# Altium integrated library Infineon_Power_Supply_Voltage_Regulator.IntLib: 346 symbols (part 6 of 16)
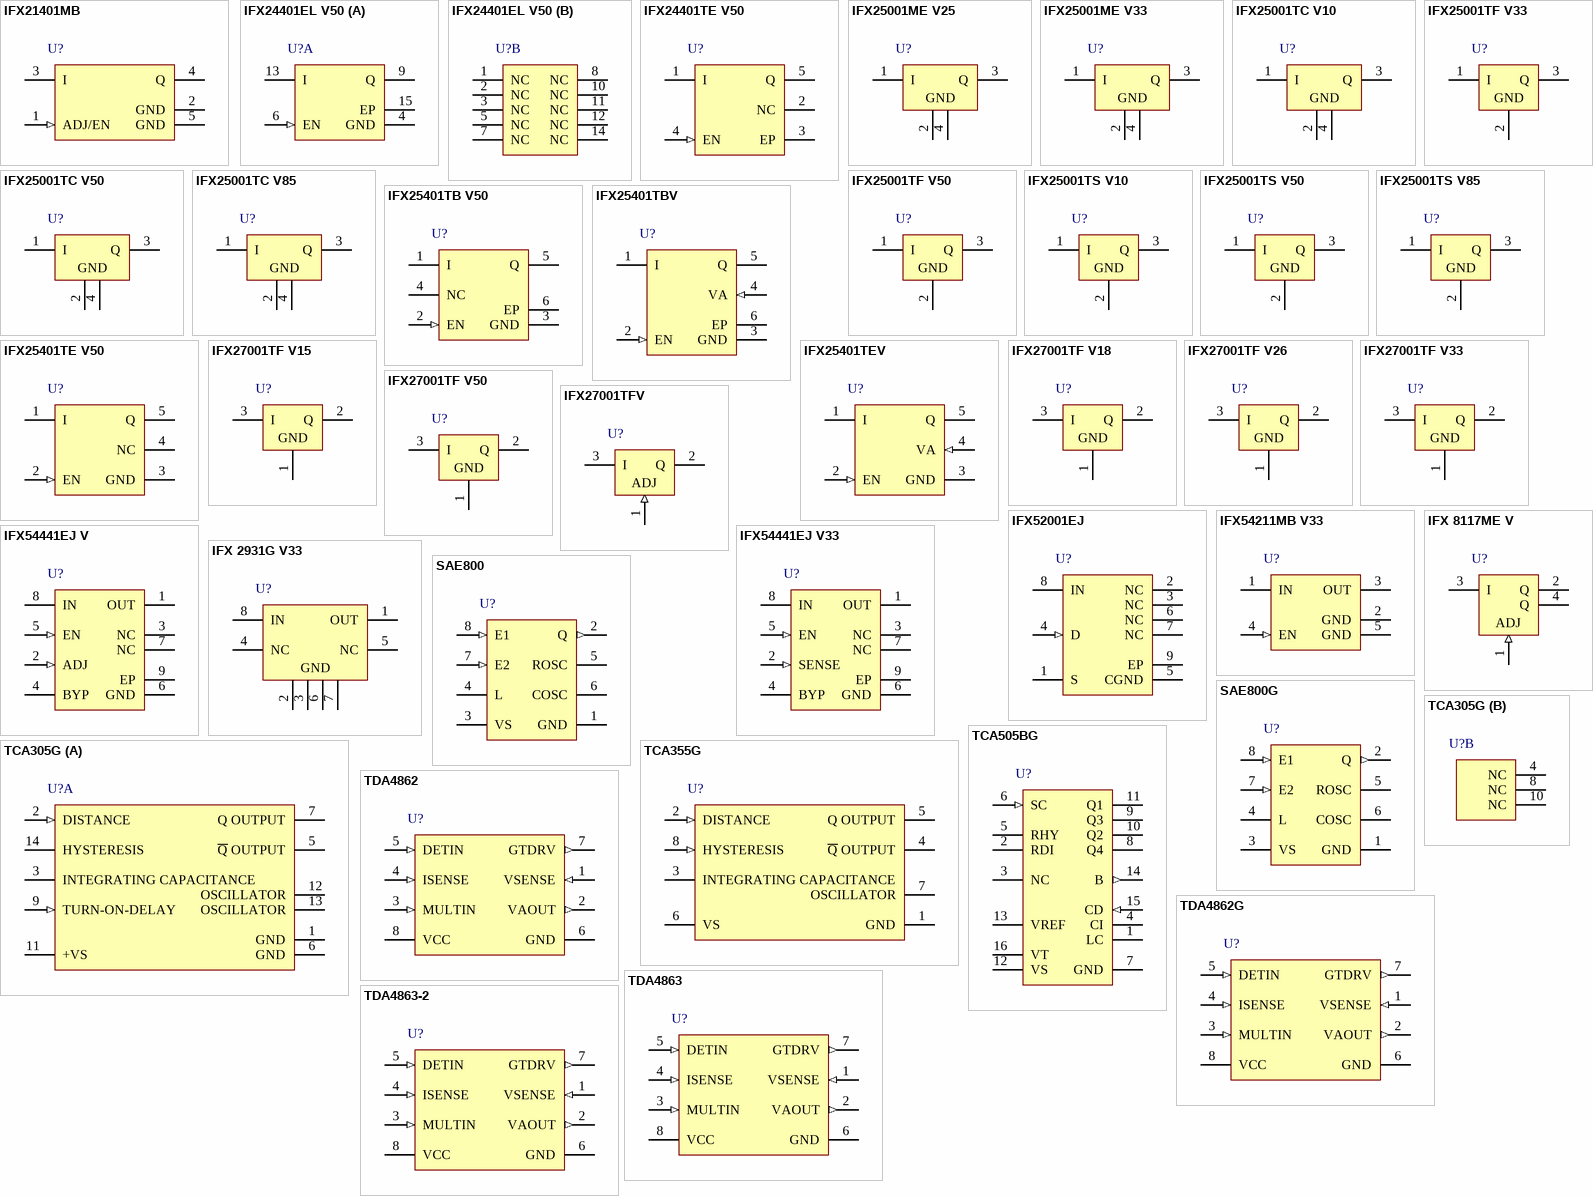
[diagram p14: symbols IFX21401MB to TDA4863-2]

## IFX27001TF V26
designator U?
Linear Voltage Regulator, 4 to 40 V Operating, 1000 mA, -40 to 125 degC, PG-TO252-3-11, Reel, Green; Manufacturer: Infineon; PartNumber: IFX27001TF V26; Accuracy: 3.0 %; Automotive Qualified: FALSE; Dropout Voltage: 1300 mV; Green: TRUE; Max Number Reflow: 3; Max Peak Reflow Temp: 260 degC; Max. Output Current: 1000 mA; Output Voltage: 2.6 V; Regulator Type: Linear->single output; Typical Quiescent Current: 800 uA; DatasheetVersion: Rev. 1.01; PackageVersion: Dec-06; PackageReference: PG-TO252-3-11; PackageDescription: 3-Pin Plastic (Green) Transistor Single Outline Package, 6.5 x 6.12 mm Body, 2.28 mm Pitch; Supplier 1: Mouser; Supplier Part Number 1: 726-IFX27001TFV26; Supplier 2: Digi-Key; Supplier Part Number 2: IFX27001TF V26INTR-ND; Supplier 3: Digi-Key; Supplier Part Number 3: IFX27001TF V26INCT-ND; Supplier 4: Digi-Key; Supplier Part Number 4: IFX27001TF V26INDKR-ND; Halogen-free: TRUE; MSL: 1; Packing: Reel; Reset: FALSE; Status Output: FALSE; Mounting Technology: Surface Mount; ComponentLink1Description: Manufacturer URL; ComponentLink1URL: http://www.infineon.com/; ComponentLink2Description: Datasheet; ComponentLink2URL: http://www.infineon.com/dgdl/IFX27001_DS_101.pdf?folderId=db3a30431ff988150120802bce1d257a&fileId=db3a304320d39d590120f62f022a6a03; ComponentLink3Description: Package Specification; ComponentLink3URL: http://www.infineon.com/dgdl/BTS142_DS_13.pdf?folderId=db3a3043163797a6011667aa084c0e01&fileId=db3a3043163797a6011667ac98be0e02&location=en.Products.Automotive_ICs.Smart_High-_and_Low-Side_Switches.HITFET___TEMPFET__-_Smart_Low-Side_Switches.DATASHEET.BTS142_DS_13.pdf
footprint INF-PG-TO252-3-11_N (DPAK, 3-Leads, Body 6.5x6.12mm, Pitch 2.28mm, IPC Medium Density)
footprint INF-PG-TO252-3-11_L (DPAK, 3-Leads, Body 6.5x6.12mm, Pitch 2.28mm, IPC High Density)
footprint INF-PG-TO252-3-11_M (DPAK, 3-Leads, Body 6.5x6.12mm, Pitch 2.28mm, IPC Low Density)
pins: 1 GND (power), 2 Q (power) "Output; Connect a capacitor CQ >= 10 uF with ESR =< 10 ohm between pin Q and GND Connect to heatsink area. Connect to heatsink area.", 3 I (power) "Input"

## IFX27001TF V33
designator U?
Linear Voltage Regulator, 4 to 40 V Operating, 1000 mA, -40 to 125 degC, PG-TO252-3-11, Reel, Green; Manufacturer: Infineon; PartNumber: IFX27001TF V33; Accuracy: 3.0 %; Automotive Qualified: FALSE; Dropout Voltage: 1300 mV; Green: TRUE; Max Number Reflow: 3; Max Peak Reflow Temp: 260 degC; Max. Output Current: 1000 mA; Output Voltage: 3.3 V; Regulator Type: Linear->single output; Typical Quiescent Current: 800 uA; DatasheetVersion: Rev. 1.01; PackageVersion: Dec-06; PackageReference: PG-TO252-3-11; PackageDescription: 3-Pin Plastic (Green) Transistor Single Outline Package, 6.5 x 6.12 mm Body, 2.28 mm Pitch; Supplier 1: Mouser; Supplier Part Number 1: 726-IFX27001TFV33; Supplier 2: Digi-Key; Supplier Part Number 2: IFX27001TF V33INTR-ND; Supplier 3: Digi-Key; Supplier Part Number 3: IFX27001TF V33INCT-ND; Supplier 4: Digi-Key; Supplier Part Number 4: IFX27001TF V33INDKR-ND; Halogen-free: TRUE; MSL: 1; Packing: Reel; Reset: FALSE; Status Output: FALSE; Mounting Technology: Surface Mount; ComponentLink1Description: Manufacturer URL; ComponentLink1URL: http://www.infineon.com/; ComponentLink2Description: Datasheet; ComponentLink2URL: http://www.infineon.com/dgdl/IFX27001_DS_101.pdf?folderId=db3a30431ff988150120802bce1d257a&fileId=db3a304320d39d590120f62f022a6a03; ComponentLink3Description: Package Specification; ComponentLink3URL: http://www.infineon.com/dgdl/BTS142_DS_13.pdf?folderId=db3a3043163797a6011667aa084c0e01&fileId=db3a3043163797a6011667ac98be0e02&location=en.Products.Automotive_ICs.Smart_High-_and_Low-Side_Switches.HITFET___TEMPFET__-_Smart_Low-Side_Switches.DATASHEET.BTS142_DS_13.pdf
footprint INF-PG-TO252-3-11_N (DPAK, 3-Leads, Body 6.5x6.12mm, Pitch 2.28mm, IPC Medium Density)
footprint INF-PG-TO252-3-11_L (DPAK, 3-Leads, Body 6.5x6.12mm, Pitch 2.28mm, IPC High Density)
footprint INF-PG-TO252-3-11_M (DPAK, 3-Leads, Body 6.5x6.12mm, Pitch 2.28mm, IPC Low Density)
pins: 1 GND (power), 2 Q (power) "Output", 3 I (power) "Input"

## IFX27001TF V50
designator U?
Linear Voltage Regulator, 6.4 to 40 V Operating, 1000 mA, -40 to 125 degC, PG-TO252-3-11, Reel, Green; Manufacturer: Infineon; PartNumber: IFX27001TF V50; Accuracy: 3.0 %; Automotive Qualified: FALSE; Dropout Voltage: 1300 mV; Green: TRUE; Max Number Reflow: 3; Max Peak Reflow Temp: 260 degC; Max. Output Current: 1000 mA; Output Voltage: 5 V; Regulator Type: Linear->single output; Typical Quiescent Current: 800 uA; DatasheetVersion: Rev. 1.01; PackageVersion: Dec-06; PackageReference: PG-TO252-3-11; PackageDescription: 3-Pin Plastic (Green) Transistor Single Outline Package, 6.5 x 6.12 mm Body, 2.28 mm Pitch; Supplier 1: Mouser; Supplier Part Number 1: 726-IFX27001TFV50; Supplier 2: Newark; Supplier Part Number 2: 47W3457; Supplier 3: Farnell; Supplier Part Number 3: 2215562; Supplier 4: Digi-Key; Supplier Part Number 4: IFX27001TF V50INTR-ND; Supplier 5: Digi-Key; Supplier Part Number 5: IFX27001TF V50INCT-ND; Supplier 6: Digi-Key; Supplier Part Number 6: IFX27001TF V50INDKR-ND; Halogen-free: TRUE; MSL: 1; Packing: Reel; Reset: FALSE; Status Output: FALSE; Mounting Technology: Surface Mount; ComponentLink1Description: Manufacturer URL; ComponentLink1URL: http://www.infineon.com/; ComponentLink2Description: Datasheet; ComponentLink2URL: http://www.infineon.com/dgdl/IFX27001_DS_101.pdf?folderId=db3a30431ff988150120802bce1d257a&fileId=db3a304320d39d590120f62f022a6a03; ComponentLink3Description: Package Specification; ComponentLink3URL: http://www.infineon.com/dgdl/BTS142_DS_13.pdf?folderId=db3a3043163797a6011667aa084c0e01&fileId=db3a3043163797a6011667ac98be0e02&location=en.Products.Automotive_ICs.Smart_High-_and_Low-Side_Switches.HITFET___TEMPFET__-_Smart_Low-Side_Switches.DATASHEET.BTS142_DS_13.pdf
footprint INF-PG-TO252-3-11_N (DPAK, 3-Leads, Body 6.5x6.12mm, Pitch 2.28mm, IPC Medium Density)
footprint INF-PG-TO252-3-11_L (DPAK, 3-Leads, Body 6.5x6.12mm, Pitch 2.28mm, IPC High Density)
footprint INF-PG-TO252-3-11_M (DPAK, 3-Leads, Body 6.5x6.12mm, Pitch 2.28mm, IPC Low Density)
pins: 1 GND (power), 2 Q (power) "Output; Connect a capacitor CQ >= 10 uF with ESR =< 10 ohm between pin Q and GND Connect to heatsink area.", 3 I (power) "Input"

## IFX27001TFV
designator U?
Linear Voltage Regulator, 3.2 to 40 V Operating, 1000 mA, -40 to 125 degC, PG-TO252-3-11, Reel, Green; Manufacturer: Infineon; PartNumber: IFX27001TFV; Accuracy: 3.0 %; Automotive Qualified: FALSE; Dropout Voltage: 1300 mV; Green: TRUE; Max Number Reflow: 3; Max Peak Reflow Temp: 260 degC; Max. Output Current: 1000 mA; Output Voltage: adj.; Regulator Type: Linear->single output; Typical Quiescent Current: 1000 uA; DatasheetVersion: Rev. 1.01; PackageVersion: Dec-06; PackageReference: PG-TO252-3-11; PackageDescription: 3-Pin Plastic (Green) Transistor Single Outline Package, 6.5 x 6.12 mm Body, 2.28 mm Pitch; Supplier 1: Mouser; Supplier Part Number 1: 726-IFX27001TFV; Supplier 2: Digi-Key; Supplier Part Number 2: IFX27001TFVINTR-ND; Supplier 3: Digi-Key; Supplier Part Number 3: IFX27001TFVINCT-ND; Supplier 4: Digi-Key; Supplier Part Number 4: IFX27001TFVINDKR-ND; Halogen-free: TRUE; MSL: 1; Packing: Reel; Reset: FALSE; Status Output: FALSE; Mounting Technology: Surface Mount; ComponentLink1Description: Manufacturer URL; ComponentLink1URL: http://www.infineon.com/; ComponentLink2Description: Datasheet; ComponentLink2URL: http://www.infineon.com/dgdl/IFX27001_DS_101.pdf?folderId=db3a30431ff988150120802bce1d257a&fileId=db3a304320d39d590120f62f022a6a03; ComponentLink3Description: Package Specification; ComponentLink3URL: http://www.infineon.com/dgdl/BTS142_DS_13.pdf?folderId=db3a3043163797a6011667aa084c0e01&fileId=db3a3043163797a6011667ac98be0e02&location=en.Products.Automotive_ICs.Smart_High-_and_Low-Side_Switches.HITFET___TEMPFET__-_Smart_Low-Side_Switches.DATASHEET.BTS142_DS_13.pdf
footprint INF-PG-TO252-3-11_N (DPAK, 3-Leads, Body 6.5x6.12mm, Pitch 2.28mm, IPC Medium Density)
footprint INF-PG-TO252-3-11_L (DPAK, 3-Leads, Body 6.5x6.12mm, Pitch 2.28mm, IPC High Density)
footprint INF-PG-TO252-3-11_M (DPAK, 3-Leads, Body 6.5x6.12mm, Pitch 2.28mm, IPC Low Density)
pins: 1 ADJ (in), 2 Q (power) "Output; Connect a capacitor CQ >= 10 uF with ESR =< 10 ohm between pin Q and GND Connect to heatsink area. Connect to heatsink area.", 3 I (power) "Input"

## IFX52001EJ
designator U?
Constant Current Relay Driver, 3 to 30 V Operating, 40 mA, -40 to 125 degC, PG-DSO-8-27, Reel, Green; Manufacturer: Infineon; PartNumber: IFX52001EJ; Accuracy: 3.0 %; Automotive Qualified: FALSE; Green: TRUE; Max. Output Current: 40 mA; Regulator Type: Linear->coil/relay driver; DatasheetVersion: Rev. 1.0; PackageVersion: V01, 06/2012; PackageReference: PG-DSO-8-27; PackageDescription: 8-Pin Plastic (Green) Dual Small Outline Package, 4.9 x 3.9 mm Body, 1.27 mm Pitch; Supplier 1: Mouser; Supplier Part Number 1: 726-IFX52001EJ; Supplier 2: Digi-Key; Supplier Part Number 2: IFX52001EJINTR-ND; Supplier 3: Digi-Key; Supplier Part Number 3: IFX52001EJINCT-ND; Supplier 4: Digi-Key; Supplier Part Number 4: IFX52001EJINDKR-ND; Halogen-free: TRUE; Packing: Reel; Reset: FALSE; Status Output: FALSE; Mounting Technology: Surface Mount; Code_JEDEC: MS-012; ComponentLink1Description: Manufacturer URL; ComponentLink1URL: http://www.infineon.com/; ComponentLink2Description: Datasheet; ComponentLink2URL: http://www.infineon.com/dgdl/IFX52001-DS-10.pdf?folderId=db3a304318f3fe290118f5a433570040&fileId=db3a30432f0d175c012f25a914ef1d14; ComponentLink3Description: Package Specification; ComponentLink3URL: http://www.infineon.com/dgdl/ILD4071_DS_V10_November2011.pdf?folderId=db3a30431f848401011fcbf2ab4c04c4&fileId=db3a30433784a04001380498fdf04c32
footprint INF-PG-DSO-8-27_N (SOP, 8-Leads, Body 4.9x3.9mm, Pitch 1.27mm, Thermal Pad 3.2x2.85mm, IPC Medium Density)
footprint INF-PG-DSO-8-27_L (SOP, 8-Leads, Body 4.9x3.9mm, Pitch 1.27mm, Thermal Pad 3.2x2.85mm, IPC High Density)
footprint INF-PG-DSO-8-27_M (SOP, 8-Leads, Body 4.9x3.9mm, Pitch 1.27mm, Thermal Pad 3.2x2.85mm, IPC Low Density)
pins: 1 S (power) "IC Supply", 2 NC "Not Connected", 3 NC "Not Connected", 4 D (in) "Delay", 5 CGND (power) "Relay Coil Current Output and IC Ground", 6 NC "Not Connected", 7 NC "Not Connected", 8 IN (power) "Relay Coil Current Input", 9 EP (power) "Exposed Pad:interconnect with CGND and heat sink area on PCB."

## IFX54211MB V33
designator U?
High PSRR Low Dropout Linear Voltage Regulator, 3.3 Vout, -40 to 125 degC, PG-SCT595, Reel, Green; Manufacturer: Infineon; PartNumber: IFX54211MB V33; Automotive Qualified: FALSE; Dropout Voltage: 290mV; Green: TRUE; Max. Output Current: 150mA; Operating Range: 2.7 to 18 V; Output Voltage: 3.3 V; Typical Quiescent Current: 50uA; DatasheetVersion: Rev. 1.0; PackageVersion: Apr-08; PackageReference: PG-SCT595; PackageDescription: 5-Pin Semiconductor Transistor Package, 2.9 x 1.6 mm Body, 0.95 mm Pitch; Packing: Reel; Regulator Type: Linear; Reset: FALSE; Mounting Technology: Surface Mount; ComponentLink1Description: Manufacturer URL; ComponentLink1URL: http://www.infineon.com/; ComponentLink2Description: Datasheet; ComponentLink2URL: http://www.infineon.com/dgdl/IFX54211MBV33-Preliminary-Data-Sheet-01-Infineon.pdf?folderId=db3a30431ff988150120802bce1d257a&fileId=db3a3043446cd82901446da993d20163; ComponentLink3Description: Package Specification; ComponentLink3URL: http://www.infineon.com/dgdl/SCT595-Package_Overview.pdf?folderId=db3a30431936bc4b01195289a4e23b8a&fileId=db3a30431936bc4b0119529a880d3bb2
footprint INF-PG-SCT595_V (SOT23, 5-Leads, Body 2.9x1.6mm, Pitch 0.95mm)
pins: 1 IN (power) "Input. IC supply. For compensating line influences, a capacitor of 220 nF close to the IC pin is recommended.", 2 GND (power) "Ground Reference. Internally connected to Pin 5. Connect to heatsink area. For thermal reasons both ground Pins 2 and 5 have to be soldered.", 3 OUT (power) "Output. Block to GND with a capacitor close to the IC terminals, respecting capacitance and ESR requirements given in the “Functional Range” on Page 7”.", 4 EN (in) "Enable. A low signal disables the IC. A high signal switches it on. Connect to the input I, if the enable functionality is not required.", 5 GND (power) "Ground Reference. Internally connected to Pin 2. Connect to heatsink area. For thermal reasons both ground Pins 2 and 5 have to be soldered."

## IFX54441EJ V
designator U?
Wide Input Range Low Noise 300 mA LDO, Adjustable Vout, -40 to 125 degC, PG-DSO-8, Reel, Green; Manufacturer: Infineon; PartNumber: IFX54441EJ V; Dropout Voltage: 270mV; Green: TRUE; Max. Output Current: 0.3A; Operating Range: 2.3 to 20 V; Output Voltage: adj.; Regulator Type: Linear; Reset: FALSE; Typical Quiescent Current: 0.03mA; DatasheetVersion: Rev. 1.0; PackageVersion: V01, 06/2012; PackageReference: PG-DSO-8-27; PackageDescription: 8-Pin Plastic (Green) Dual Small Outline Package, 4.9 x 3.9 mm Body, 1.27 mm Pitch; Halogen-free: TRUE; Packing: Reel; Mounting Technology: Surface Mount; Code_JEDEC: MS-012; ComponentLink1Description: Manufacturer URL; ComponentLink1URL: http://www.infineon.com/; ComponentLink2Description: Datasheet; ComponentLink2URL: http://www.infineon.com/dgdl/IFX54441-Data-Sheet-10-Infineon.pdf?folderId=db3a30431f848401011fcbf221ff04c3&fileId=db3a304344f7b4f901450411f09f2830; ComponentLink3Description: Package Specification; ComponentLink3URL: http://www.infineon.com/cms/packages/SMD_-_Surface_Mounted_Devices/P-PG-DSO/P-PG-DSO-08-27.html?__locale=en
footprint INF-PG-DSO-8-27_N (SOP, 8-Leads, Body 4.9x3.9mm, Pitch 1.27mm, Thermal Pad 3.2x2.85mm, IPC Medium Density)
footprint INF-PG-DSO-8-27_L (SOP, 8-Leads, Body 4.9x3.9mm, Pitch 1.27mm, Thermal Pad 3.2x2.85mm, IPC High Density)
footprint INF-PG-DSO-8-27_M (SOP, 8-Leads, Body 4.9x3.9mm, Pitch 1.27mm, Thermal Pad 3.2x2.85mm, IPC Low Density)
pins: 1 OUT (power) "Output", 2 ADJ (in) "Adjust", 3 NC "No Connect", 4 BYP "Bypass", 5 EN (in) "Enable", 6 GND (power) "Ground", 7 NC "No Connect", 8 IN (power) "Input", 9 EP (power) "Exposed Pad"

## IFX54441EJ V33
designator U?
Wide Input Range Low Noise 300 mA LDO, 3.3 Vout, -40 to 125 degC, PG-DSO-8, Reel, Green; Manufacturer: Infineon; PartNumber: IFX54441EJ V33; Dropout Voltage: 270mV; Green: TRUE; Max. Output Current: 0.3A; Operating Range: 2.3 to 20 V; Output Voltage: 3.3 V; Regulator Type: Linear; Reset: FALSE; Typical Quiescent Current: 0.03mA; DatasheetVersion: Rev. 1.0; PackageVersion: V01, 06/2012; PackageReference: PG-DSO-8-27; PackageDescription: 8-Pin Plastic (Green) Dual Small Outline Package, 4.9 x 3.9 mm Body, 1.27 mm Pitch; Halogen-free: TRUE; Packing: Reel; Mounting Technology: Surface Mount; Code_JEDEC: MS-012; ComponentLink1Description: Manufacturer URL; ComponentLink1URL: http://www.infineon.com/; ComponentLink2Description: Datasheet; ComponentLink2URL: http://www.infineon.com/dgdl/IFX54441-Data-Sheet-10-Infineon.pdf?folderId=db3a30431f848401011fcbf221ff04c3&fileId=db3a304344f7b4f901450411f09f2830; ComponentLink3Description: Package Specification; ComponentLink3URL: http://www.infineon.com/cms/packages/SMD_-_Surface_Mounted_Devices/P-PG-DSO/P-PG-DSO-08-27.html?__locale=en
footprint INF-PG-DSO-8-27_N (SOP, 8-Leads, Body 4.9x3.9mm, Pitch 1.27mm, Thermal Pad 3.2x2.85mm, IPC Medium Density)
footprint INF-PG-DSO-8-27_L (SOP, 8-Leads, Body 4.9x3.9mm, Pitch 1.27mm, Thermal Pad 3.2x2.85mm, IPC High Density)
footprint INF-PG-DSO-8-27_M (SOP, 8-Leads, Body 4.9x3.9mm, Pitch 1.27mm, Thermal Pad 3.2x2.85mm, IPC Low Density)
pins: 1 OUT (power) "Output", 2 SENSE (in) "Output Sense", 3 NC "No Connect", 4 BYP "Bypass", 5 EN (in) "Enable", 6 GND (power) "Ground", 7 NC "No Connect", 8 IN (power) "Input", 9 EP (power) "Exposed Pad"

## IFX 2931G V33
designator U?
Low Dropout Linear Voltage Regulator, 6 to 26 V Operating, 100 mA, -40 to 125 degC, PG-DSO-8-16, Reel, Green; Manufacturer: Infineon; PartNumber: IFX 2931G V33; Accuracy: 5.0 %; Automotive Qualified: FALSE; Dropout Voltage: 300 mV; Green: TRUE; Max Number Reflow: 3; Max Peak Reflow Temp: 260 degC; Max. Output Current: 100 mA; Output Voltage: 3.3 V; Regulator Type: Linear->single output; Typical Quiescent Current: 400 uA; DatasheetVersion: Rev. 1.13; PackageVersion: Mar-07; PackageReference: PG-DSO-8-16; PackageDescription: 8-Pin Plastic (Green) Dual Small Outline Package, 4.9 x 3.9 mm Body, 1.27 mm Pitch; MSL: 3; Packing: Reel; Reset: FALSE; Status Output: FALSE; Mounting Technology: Surface Mount; ComponentLink1Description: Manufacturer URL; ComponentLink1URL: http://www.infineon.com/; ComponentLink2Description: Datasheet; ComponentLink2URL: http://www.infineon.com/dgdl/IFX2931-Data-Sheet-113.pdf?folderId=db3a304318f3fe290118f5a433570040&fileId=db3a304320d39d59012114ce2e9245a8; ComponentLink3Description: Package Specification; ComponentLink3URL: http://www.infineon.com/dgdl/TLE7259-2GE_DS_rev12.pdf?folderId=db3a3043163797a6011666d32a0c0de1&fileId=db3a3043163797a6011666d4dbb80de2&location=en.Products.Automotive_ICs.Automotive_Transceivers.LIN_Transceivers.DATASHEET.TLE7259-2GE_DS_rev12.pdf
footprint INF-PG-DSO-8-16_N (SOP, 8-Leads, Body 4.9x3.9mm, Pitch 1.27mm, IPC Medium Density)
footprint INF-PG-DSO-8-16_L (SOP, 8-Leads, Body 4.9x3.9mm, Pitch 1.27mm, IPC High Density)
footprint INF-PG-DSO-8-16_M (SOP, 8-Leads, Body 4.9x3.9mm, Pitch 1.27mm, IPC Low Density)
pins: 1 OUT (power) "Output", 2 GND (power) "Ground", 3 GND (power) "Ground", 4 NC "not connected", 5 NC "not connected", 6 GND (power) "Ground", 7 GND (power) "Ground", 8 IN (power) "Input"

## IFX 8117ME V
designator U?
Low-Dropout Linear Voltage Regulator, 4.55 to 15 V Operating, 1000 mA, -40 to 125 degC, PG-SOT223 (SC-73), Reel, Green; Manufacturer: Infineon; PartNumber: IFX 8117ME V; Accuracy: 1.0 %; Automotive Qualified: FALSE; Dropout Voltage: 1200 mV; Green: TRUE; Max Number Reflow: 3; Max Peak Reflow Temp: 260 degC; Max. Output Current: 1000 mA; Output Voltage: adj.; Regulator Type: Linear->single output; Typical Quiescent Current: 5000 uA; DatasheetVersion: Rev. 1.01; PackageVersion: Apr-08; PackageReference: PG-SOT223 (SC-73); PackageDescription: 4-Pin Small Outline Transistor Package, 6.5 x 3.5 mm Body, 2.3 mm Pitch; MSL: 1; Packing: Reel; Reset: FALSE; Status Output: FALSE; Mounting Technology: Surface Mount; ComponentLink1Description: Manufacturer URL; ComponentLink1URL: http://www.infineon.com/; ComponentLink2Description: Datasheet; ComponentLink2URL: http://www.infineon.com/dgdl/IFX8117_DS_101.pdf?folderId=db3a30431a5c32f2011a8084a04a6500&fileId=db3a30432a7fedfc012aad7cf26c0b0d; ComponentLink3Description: Package Specification; ComponentLink3URL: http://www.infineon.com/dgdl/SOT223-Package_Overview.pdf?folderId=db3a30431936bc4b0119530470b03c3d&fileId=db3a30431936bc4b0119531d40b93c5c
footprint INF-PG-SOT223_SC-73_N (SOT223, 4-Leads, Body 6.5x3.5mm, Pitch 2.3mm, IPC Medium Density)
footprint INF-PG-SOT223_SC-73_L (SOT223, 4-Leads, Body 6.5x3.5mm, Pitch 2.3mm, IPC High Density)
footprint INF-PG-SOT223_SC-73_M (SOT223, 4-Leads, Body 6.5x3.5mm, Pitch 2.3mm, IPC Low Density)
pins: 1 ADJ (in), 2 Q (power) "Output", 3 I (power) "Input", 4 Q (power) "Output"

## SAE800
designator U?
Programmable Single- / Dual- / Triple- Tone Gong, 2.8 to 18 V, 750 mA Iq, -25 to 125 degC, PG-DIP-8-4, Tube, Green; Manufacturer: Infineon; PartNumber: SAE800; Green: TRUE; ICC (max): 10 mA; IQ (max): 750 mA; VCC (max): 18 V; VCC (min): 2.8 V; PackageVersion: Jul-07; PackageReference: PG-DIP-8-4; PackageDescription: 8-Pin Plastic (Green) Dual In-Line Package, 9.52 x 6.35 mm Body, 2.54 mm Pitch; Supplier 1: Mouser; Supplier Part Number 1: 726-SAE800; Supplier 2: Digi-Key; Supplier Part Number 2: SAE800IN-ND; Packing: Tube; Mounting Technology: Through Hole; ComponentLink1Description: Manufacturer URL; ComponentLink1URL: http://www.infineon.com/; ComponentLink2Description: Datasheet; ComponentLink2URL: http://www.infineon.com/dgdl/sae800_green_050217.pdf?folderId=db3a304412b407950112b437a9216875&fileId=db3a304412b407950112b437a9a46876; ComponentLink3Description: Package Specification; ComponentLink3URL: http://www.infineon.com/dgdl/DS+ICE1PCS01_v1.3+Feb+2007.pdf?folderId=db3a304412b407950112b4182a3d24f8&fileId=db3a304412b407950112b427c6f13cc7
footprint INF-PG-DIP-8-4 (DIP, 8-Leads, Body 9.52x6.35mm, Pitch 2.54mm)
pins: 1 GND (power) "Ground", 2 Q (out) "Output", 3 VS (power) "Supply Voltage", 4 L "Loudness Control", 5 ROSC "Oscillator Resistor", 6 COSC "Oscillator Capacitor", 7 E2 (in) "Trigger 2 (dual tone)", 8 E1 (in) "Trigger 1 (single tone)"

## SAE800G
designator U?
Programmable Single- / Dual- / Triple- Tone Gong, 2.8 to 18 V, 750 mA Iq, -25 to 125 degC, PG-DSO-8-1; Manufacturer: Infineon; PartNumber: SAE800G; ICC (max): 10 mA; IQ (max): 750 mA; VCC (max): 18 V; VCC (min): 2.8 V; PackageReference: PG-DSO-8-1; PackageDescription: 8-Pin Plastic (Green) Dual Small Outline Package, 4.9 x 3.9 mm Body, 1.27 mm Pitch; Supplier 1: Mouser; Supplier Part Number 1: 726-SAE800G; Supplier 2: Farnell; Supplier Part Number 2: 1472783; Supplier 3: Digi-Key; Supplier Part Number 3: SAE800G-ND; Halogen-free: available; Mounting Technology: Surface Mount; ComponentLink1Description: Manufacturer URL; ComponentLink1URL: http://www.infineon.com/; ComponentLink2Description: Datasheet; ComponentLink2URL: http://www.infineon.com/dgdl/sae800_green_050217.pdf?folderId=db3a304412b407950112b437ac2b687a&fileId=db3a304412b407950112b437acae687b; ComponentLink3Description: Package Specification; ComponentLink3URL: http://www.infineon.com/dgdl/sae800_green_050217.pdf?folderId=db3a304412b407950112b437ac2b687a&fileId=db3a304412b407950112b437acae687b
footprint INF-PG-DSO-8-1_N (SOP, 8-Leads, Body 4.9x3.9mm, Pitch 1.27mm, IPC Medium Density)
footprint INF-PG-DSO-8-1_L (SOP, 8-Leads, Body 4.9x3.9mm, Pitch 1.27mm, IPC High Density)
footprint INF-PG-DSO-8-1_M (SOP, 8-Leads, Body 4.9x3.9mm, Pitch 1.27mm, IPC Low Density)
pins: 1 GND (power) "Ground", 2 Q (out) "Output", 3 VS (power) "Supply Voltage", 4 L "Loudness Control", 5 ROSC "Oscillator Resistor", 6 COSC "Oscillator Capacitor", 7 E2 (in) "Trigger 2 (dual tone)", 8 E1 (in) "Trigger 1 (single tone)"

## TCA305G
designator U?
Proximity Switch, -25 to 85 degC, PG-DSO-14-1, Tube; Manufacturer: Infineon; PartNumber: TCA305G; Green: FALSE; ICC (max): 0.9 mA; IQ (max): 50 mA; VCC (max): 30 V; VCC (min): 5 V; PackageVersion: Apr-11; PackageReference: PG-DSO-14-1; PackageDescription: 14-Pin Plastic (Green) Dual Small Outline Package, 8.65 x 3.9 mm Body, 1.27 mm Pitch; Supplier 1: Mouser; Supplier Part Number 1: 726-TCA305G; Supplier 2: Digi-Key; Supplier Part Number 2: TCA305G-ND; Halogen-free: FALSE; Packing: Tube; Mounting Technology: Surface Mount; ComponentLink1Description: Manufacturer URL; ComponentLink1URL: http://www.infineon.com/; ComponentLink2Description: Datasheet; ComponentLink2URL: http://www.infineon.com/dgdl/tca305_green_050217.pdf?folderId=db3a304412b407950112b437b1f76884&fileId=db3a304412b407950112b437b27b6885; ComponentLink3Description: Package Specification; ComponentLink3URL: http://www.infineon.com/dgdl/DCDC-Controller-IFX80471-Data-Sheet-V10-Infineon.pdf?folderId=db3a304314dca3890115039cf70d0bf0&fileId=db3a30432e398416012e487ec6e42599
footprint INF-PG-DSO-14-1_N (SOP, 14-Leads, Body 8.65x3.9mm, Pitch 1.27mm, IPC Medium Density)
footprint INF-PG-DSO-14-1_L (SOP, 14-Leads, Body 8.65x3.9mm, Pitch 1.27mm, IPC High Density)
footprint INF-PG-DSO-14-1_M (SOP, 14-Leads, Body 8.65x3.9mm, Pitch 1.27mm, IPC Low Density)
part A pins: 1 GND (power), 2 DISTANCE (in), 3 INTEGRATING CAPACITANCE, 5 ~{Q} OUTPUT (oc), 6 GND (power), 7 Q OUTPUT (oc), 9 TURN-ON-DELAY (in), 11 +VS (power), 12 OSCILLATOR, 13 OSCILLATOR, 14 HYSTERESIS (oc)
part B pins: 4 NC, 8 NC, 10 NC

## TCA355G
designator U?
Proximity Switch, 5 to 30 V, 50 mA Iq, -25 to 85 degC, PG-DSO-8-1; Manufacturer: Infineon; PartNumber: TCA355G; ICC (max): 1 mA; IQ (max): 50 mA; VCC (max): 30 V; VCC (min): 5 V; PackageReference: PG-DSO-8-1; PackageDescription: 8-Pin Plastic (Green) Dual Small Outline Package, 4.9 x 3.9 mm Body, 1.27 mm Pitch; Supplier 1: Mouser; Supplier Part Number 1: 726-TCA355G; Supplier 2: Digi-Key; Supplier Part Number 2: TCA355G-ND; Halogen-free: available; Mounting Technology: Surface Mount; ComponentLink1Description: Manufacturer URL; ComponentLink1URL: http://www.infineon.com/; ComponentLink2Description: Datasheet; ComponentLink2URL: http://www.infineon.com/dgdl/tca305_green_050217.pdf?folderId=db3a304412b407950112b437b49e6889&fileId=db3a304412b407950112b437b522688a; ComponentLink3Description: Package Specification; ComponentLink3URL: http://www.infineon.com/dgdl/sae800_green_050217.pdf?folderId=db3a304412b407950112b437ac2b687a&fileId=db3a304412b407950112b437acae687b
footprint INF-PG-DSO-8-1_N (SOP, 8-Leads, Body 4.9x3.9mm, Pitch 1.27mm, IPC Medium Density)
footprint INF-PG-DSO-8-1_L (SOP, 8-Leads, Body 4.9x3.9mm, Pitch 1.27mm, IPC High Density)
footprint INF-PG-DSO-8-1_M (SOP, 8-Leads, Body 4.9x3.9mm, Pitch 1.27mm, IPC Low Density)
pins: 1 GND (power), 2 DISTANCE (in), 3 INTEGRATING CAPACITANCE, 4 ~{Q} OUTPUT (oc), 5 Q OUTPUT (oc), 6 VS (power), 7 OSCILLATOR, 8 HYSTERESIS (in)

## TCA505BG
designator U?
IC for Inductive Proximity Switches with Short-Circuit Protection, 3.1 to 40 V, 60 mA Iq, -40 to 110 degC, PG-DSO-16-1, Tube; Manufacturer: Infineon; PartNumber: TCA505BG; ICC (max): 0.84 mA; IQ (max): 60 mA; VCC (max): 40 V; VCC (min): 3.1 V; PackageReference: PG-DSO-16-1; PackageDescription: 16-Pin Plastic (Green) Dual Small Outline Package, 9.9 x 3.9 mm Body, 1.27 mm Pitch; Supplier 1: Digi-Key; Supplier Part Number 1: TCA505BG-ND; Halogen-free: available; Packing: Tube; Mounting Technology: Surface Mount; ComponentLink1Description: Manufacturer URL; ComponentLink1URL: http://www.infineon.com/; ComponentLink2Description: Datasheet; ComponentLink2URL: http://www.infineon.com/dgdl/tca505_green_050217.pdf?folderId=db3a304412b407950112b408e8c90004&fileId=db3a304412b407950112b437bbef6893; ComponentLink3Description: Package Specification; ComponentLink3URL: http://www.infineon.com/dgdl/tca505_green_050217.pdf?folderId=db3a304412b407950112b437b73a688e&fileId=db3a304412b407950112b437b7b7688f
footprint INF-PG-DSO-16-1_N (SOP, 16-Leads, Body 9.9x3.9mm, Pitch 1.27mm, IPC Medium Density)
footprint INF-PG-DSO-16-1_L (SOP, 16-Leads, Body 9.9x3.9mm, Pitch 1.27mm, IPC High Density)
footprint INF-PG-DSO-16-1_M (SOP, 16-Leads, Body 9.9x3.9mm, Pitch 1.27mm , IPC Low Density)
pins: 1 LC "Oscillator", 2 RDI "Distance", 3 NC "Not connected", 4 CI "Integrating capacitance", 5 RHY "Hysteresis", 6 SC (in) "Short-circuit detector", 7 GND (power) "Ground", 8 Q4 "Output", 9 Q3 "Output", 10 Q2 "Output", 11 Q1 "Output", 12 VS (power) "Supply voltage", 13 VREF "Reference voltage", 14 B (out) "Base Output Transistors", 15 CD (in) "Turn-ON delay / Short-circuit delay", 16 VT (power) "Two-wire regulator"

## TDA4862
designator U?
Power-Factor Controller (PFC) IC for High Power Factor and Active Harmonic Filter, 11 to 19 V, -40 to 150 degC, PG-DIP-8-1, Tube, Green; Part Number: TDA4862; Manufacturer: Infineon; Frequency ( f ) Range: 30 - 300kHz; Green: TRUE; ICC (max): 50 mA; IQ (max): 500 mA; Iq (typ): 75 uA; Output: MOSFET Gate Driver; VCC (max): 19 V; VCC (min): 11 V; PackageVersion: Feb-05; PackageReference: PG-DIP-8-1; PackageDescription: 8-Pin Plastic (Green) Dual In-Line Package, 9.9 x 6.3 mm Body, 2.54 mm Pitch; Supplier 1: Mouser; Supplier Part Number 1: 726-TDA4862; Supplier 2: Newark; Supplier Part Number 2: 47W3765; Supplier 3: Farnell; Supplier Part Number 3: 2215577; Supplier 4: Digi-Key; Supplier Part Number 4: TDA4862-ND; Packing: Tube; Mounting Technology: Through Hole; PartNumber: TDA4862; ComponentLink1Description: Manufacturer URL; ComponentLink1URL: http://www.infineon.com/; ComponentLink2Description: Datasheet; ComponentLink2URL: http://www.infineon.com/dgdl/DS_TDA4862G_green_050217.pdf?folderId=db3a304412b407950112b427d4e43cef&fileId=db3a304412b407950112b427d5513cf0; ComponentLink3Description: Package Specification; ComponentLink3URL: http://www.infineon.com/dgdl/DS_TDA4862G_green_050217.pdf?folderId=db3a304412b407950112b427d4e43cef&fileId=db3a304412b407950112b427d5513cf0
footprint INF-PG-DIP-8-1 (DIP, 8-Leads, Body 9.9x6.3mm, Pitch 2.54mm)
pins: 1 VSENSE (in) "Voltage Amplifier Inverting Input; VSENSE is connected via a resistive divider to the boost converter output. With a capacitor connected to VAOUT it forms an integrator.", 2 VAOUT (out) "Voltage Amplifier Output; VAOUT is connected internally to the first multiplier input. To prevent overshoot the input voltage will be clamped at 5 V. During no load conditions output pulses are suppressed completely (See Datasheet)", 3 MULTIN (in) "Multiplier Input; MULTIN is the second multiplier input and connected via a resistive divider to the rectifier output voltage.", 4 ISENSE (in) "Current Sense Minus; ISENSE is connected to a sense resistor controlling the MOSFET source current. The input is internally clamped at - 0.3 V to prevent negative input voltage interaction. An internal low pass filter (See Datasheet)", 5 DETIN (in) "Zero Current Detector Input; DETIN is connected to an auxiliary winding monitoring the zero crossing of the inductor current.", 6 GND (power) "Ground; All voltages are measured with respect to GND. VCC should be bypassed directly to GND with a 0.1 uF or larger ceramic capacitor.", 7 GTDRV (out) "Gate Drive Output; GTDRV is the output of a totem-pole circuitry for direct driving a MOSFET. A clamping network bypasses low state source current and high state sink current.", 8 VCC (power) "Positive Supply Voltage; VCC should be connected to a stable source slightly above the VCC turn-ON threshold for normal operation. A 100 nF or lager ceramic capacitor connected to VCC absorbs supply current spikes required (See Datasheet)"

## TDA4862G
designator U?
Power-Factor Controller (PFC) IC for High Power Factor and Active Harmonic Filter, 11 to 19 V, -40 to 150 degC, PG-DSO-8-1, Reel, Green; Part Number: TDA4862G; Manufacturer: Infineon; Frequency ( f ) Range: 30 - 300kHz; Green: TRUE; ICC (max): 50 mA; IQ (max): 500 mA; Iq (typ): 75 uA; Output: MOSFET Gate Driver; VCC (max): 19 V; VCC (min): 11 V; PackageReference: PG-DSO-8-1; PackageDescription: 8-Pin Plastic (Green) Dual Small Outline Package, 4.9 x 3.9 mm Body, 1.27 mm Pitch; Halogen-free: available; Packing: Reel; Mounting Technology: Surface Mount; PartNumber: TDA4862G; ComponentLink1Description: Manufacturer URL; ComponentLink1URL: http://www.infineon.com/; ComponentLink2Description: Datasheet; ComponentLink2URL: http://www.infineon.com/dgdl/DS_TDA4862G_green_050217.pdf?folderId=db3a304412b407950112b427d84e3cf4&fileId=db3a304412b407950112b427d8ba3cf5; ComponentLink3Description: Package Specification; ComponentLink3URL: http://www.infineon.com/dgdl/sae800_green_050217.pdf?folderId=db3a304412b407950112b437ac2b687a&fileId=db3a304412b407950112b437acae687b
footprint INF-PG-DSO-8-1_N (SOP, 8-Leads, Body 4.9x3.9mm, Pitch 1.27mm, IPC Medium Density)
footprint INF-PG-DSO-8-1_L (SOP, 8-Leads, Body 4.9x3.9mm, Pitch 1.27mm, IPC High Density)
footprint INF-PG-DSO-8-1_M (SOP, 8-Leads, Body 4.9x3.9mm, Pitch 1.27mm, IPC Low Density)
pins: 1 VSENSE (in) "Voltage Amplifier Inverting Input; VSENSE is connected via a resistive divider to the boost converter output. With a capacitor connected to VAOUT it forms an integrator.", 2 VAOUT (out) "Voltage Amplifier Output; VAOUT is connected internally to the first multiplier input. To prevent overshoot the input voltage will be clamped at 5 V. During no load conditions output pulses are suppressed completely (See Datasheet)", 3 MULTIN (in) "Multiplier Input; MULTIN is the second multiplier input and connected via a resistive divider to the rectifier output voltage.", 4 ISENSE (in) "Current Sense Minus; ISENSE is connected to a sense resistor controlling the MOSFET source current. The input is internally clamped at - 0.3 V to prevent negative input voltage interaction. An internal low pass filter (See Datasheet)", 5 DETIN (in) "Zero Current Detector Input; DETIN is connected to an auxiliary winding monitoring the zero crossing of the inductor current.", 6 GND (power) "Ground; All voltages are measured with respect to GND. VCC should be bypassed directly to GND with a 0.1 uF or larger ceramic capacitor.", 7 GTDRV (out) "Gate Drive Output; GTDRV is the output of a totem-pole circuitry for direct driving a MOSFET. A clamping network bypasses low state source current and high state sink current.", 8 VCC (power) "Positive Supply Voltage; VCC should be connected to a stable source slightly above the VCC turn-ON threshold for normal operation. A 100 nF or lager ceramic capacitor connected to VCC absorbs supply current spikes required (See Datasheet)"

## TDA4863
designator U?
Power Factor Controller IC for High Power Factor and Low THD, 10 to 20 V, -40 to 150 degC, PG-DIP-8-4, Tube, Green; Part Number: TDA4863; Manufacturer: Infineon; Frequency ( f ) Range: 30 - 300kHz; Green: TRUE; ICC (max): 20 mA; IQ (max): 500 mA; Iq (typ): 20 uA; Output: MOSFET Gate Driver; VCC (max): 20 V; VCC (min): 10 V; DatasheetVersion: Rev. 2; PackageVersion: Jul-07; PackageReference: PG-DIP-8-4; PackageDescription: 8-Pin Plastic (Green) Dual In-Line Package, 9.52 x 6.35 mm Body, 2.54 mm Pitch; Supplier 1: Mouser; Supplier Part Number 1: 726-TDA4863; Supplier 2: Digi-Key; Supplier Part Number 2: TDA4863-ND; Packing: Tube; Mounting Technology: Through Hole; PartNumber: TDA4863; ComponentLink1Description: Manufacturer URL; ComponentLink1URL: http://www.infineon.com/; ComponentLink2Description: Datasheet; ComponentLink2URL: http://www.infineon.com/dgdl/tda4863-Rev2G-password.pdf?folderId=db3a304412b407950112b427db8a3cf9&fileId=db3a304412b407950112b427dbf63cfa; ComponentLink3Description: Package Specification; ComponentLink3URL: http://www.infineon.com/dgdl/DS+ICE1PCS01_v1.3+Feb+2007.pdf?folderId=db3a304412b407950112b4182a3d24f8&fileId=db3a304412b407950112b427c6f13cc7
footprint INF-PG-DIP-8-4 (DIP, 8-Leads, Body 9.52x6.35mm, Pitch 2.54mm)
pins: 1 VSENSE (in) "Voltage Amplifier Inverting Input; VSENSE is connected via a resistive divider to the boost converter output. With a capacitor connected to VAOUT it forms an integrator.", 2 VAOUT (out) "Voltage Amplifier Output; VAOUT is connected internally to the first multiplier input. To prevent overshoot the input voltage will be clamped at 5 V. During no load conditions output pulses are suppressed completely (See Datasheet)", 3 MULTIN (in) "Multiplier Input; MULTIN is the second multiplier input and connected via a resistive divider to the rectifier output voltage.", 4 ISENSE (in) "Current Sense Minus; ISENSE is connected to a sense resistor controlling the MOSFET source current. The input is internally clamped at - 0.3 V to prevent negative input voltage interaction. An internal low pass filter (See Datasheet)", 5 DETIN (in) "Zero Current Detector Input; DETIN is connected to an auxiliary winding monitoring the zero crossing of the inductor current.", 6 GND (power) "Ground; All voltages are measured with respect to GND. VCC should be bypassed directly to GND with a 0.1 uF or larger ceramic capacitor.", 7 GTDRV (out) "Gate Drive Output; GTDRV is the output of a totem-pole circuitry for direct driving a MOSFET. A clamping network bypasses low state source current and high state sink current.", 8 VCC (power) "Positive Supply Voltage; VCC should be connected to a stable source slightly above the VCC turn-ON threshold for normal operation. A 100 nF or lager ceramic capacitor connected to VCC absorbs supply current spikes required (See Datasheet)"

## TDA4863-2
designator U?
Power-Factor Controller (PFC) IC for High Power Factor and Low THD, 10 to 20 V, -40 to 150 degC, PG-DIP-8-4, Tube, Green; Part Number: TDA4863-2; Manufacturer: Infineon; Frequency ( f ) Range: 30 - 300kHz; Green: TRUE; ICC (max): 20 mA; IQ (max): 500 mA; Iq (typ): 20 uA; Output: MOSFET Gate Driver; VCC (max): 20 V; VCC (min): 10 V; DatasheetVersion: Rev. 2.1; PackageVersion: Jul-07; PackageReference: PG-DIP-8-4; PackageDescription: 8-Pin Plastic (Green) Dual In-Line Package, 9.52 x 6.35 mm Body, 2.54 mm Pitch; Supplier 1: Mouser; Supplier Part Number 1: 726-TDA48632; Supplier 2: Digi-Key; Supplier Part Number 2: TDA4863-2-ND; Packing: Tube; Mounting Technology: Through Hole; PartNumber: TDA4863-2; ComponentLink1Description: Manufacturer URL; ComponentLink1URL: http://www.infineon.com/; ComponentLink2Description: Datasheet; ComponentLink2URL: http://www.infineon.com/dgdl/tda4863-2_v2-1.pdf?folderId=db3a304412b407950112b418029a24aa&fileId=db3a304412b407950112b41802de24ab; ComponentLink3Description: Package Specification; ComponentLink3URL: http://www.infineon.com/dgdl/DS+ICE1PCS01_v1.3+Feb+2007.pdf?folderId=db3a304412b407950112b4182a3d24f8&fileId=db3a304412b407950112b427c6f13cc7
footprint INF-PG-DIP-8-4 (DIP, 8-Leads, Body 9.52x6.35mm, Pitch 2.54mm)
pins: 1 VSENSE (in) "Voltage Amplifier Inverting Input; VSENSE is connected via a resistive divider to the boost converter output. With a capacitor connected to VAOUT it forms an integrator.", 2 VAOUT (out) "Voltage Amplifier Output; VAOUT is connected internally to the first multiplier input. To prevent overshoot the input voltage will be clamped at 5 V. During no load conditions output pulses are suppressed completely (See Datasheet)", 3 MULTIN (in) "Multiplier Input; MULTIN is the second multiplier input and connected via a resistive divider to the rectifier output voltage.", 4 ISENSE (in) "Current Sense Minus; ISENSE is connected to a sense resistor controlling the MOSFET source current. The input is internally clamped at - 0.3 V to prevent negative input voltage interaction. An internal low pass filter (See Datasheet)", 5 DETIN (in) "Zero Current Detector Input; DETIN is connected to an auxiliary winding monitoring the zero crossing of the inductor current.", 6 GND (power) "Ground; All voltages are measured with respect to GND. VCC should be bypassed directly to GND with a 0.1 uF or larger ceramic capacitor.", 7 GTDRV (out) "Gate Drive Output; GTDRV is the output of a totem-pole circuitry for direct driving a MOSFET. A clamping network bypasses low state source current and high state sink current.", 8 VCC (power) "Positive Supply Voltage; VCC should be connected to a stable source slightly above the VCC turn-ON threshold for normal operation. A 100 nF or lager ceramic capacitor connected to VCC absorbs supply current spikes required (See Datasheet)"

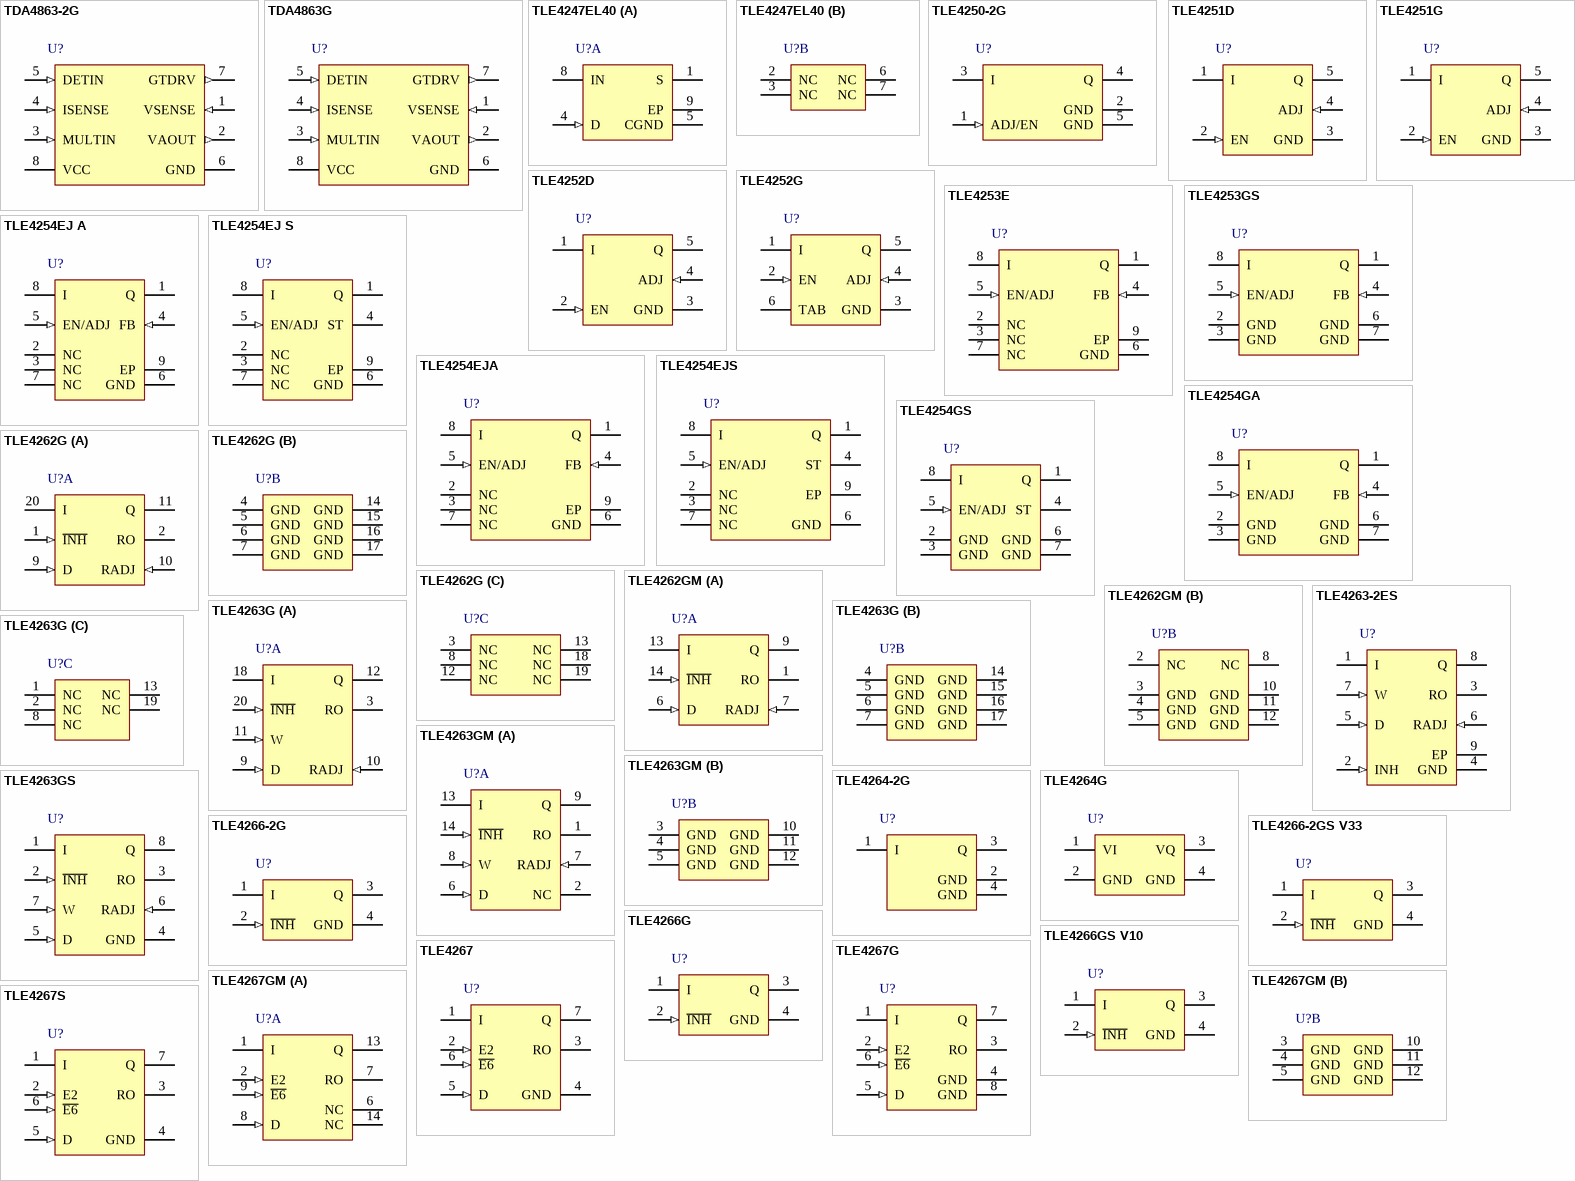
[diagram p4: symbols TDA4863-2G to TLE4267S]

## TDA4863-2G
designator U?
Power-Factor Controller (PFC) IC for High Power Factor and Low THD, 10 to 20 V, -40 to 150 degC, PG-DSO-8-3, Reel, Green; Part Number: TDA4863-2G; Manufacturer: Infineon; Frequency ( f ) Range: 30 - 300kHz; Green: TRUE; ICC (max): 20 mA; IQ (max): 500 mA; Iq (typ): 20 uA; Output: MOSFET Gate Driver; VCC (max): 20 V; VCC (min): 10 V; DatasheetVersion: Rev. 2.1; PackageReference: PG-DSO-8-3; PackageDescription: 8-Pin Plastic (Green) Dual Small Outline Package, 4.9 x 3.9 mm Body, 1.27 mm Pitch; Supplier 1: Mouser; Supplier Part Number 1: 726-TDA48632G; Supplier 2: Digi-Key; Supplier Part Number 2: TDA4863-2GTR-ND; Supplier 3: Digi-Key; Supplier Part Number 3: TDA4863-2GCT-ND; Supplier 4: Digi-Key; Supplier Part Number 4: TDA4863-2GDKR-ND; Halogen-free: available; Packing: Reel; Mounting Technology: Surface Mount; PartNumber: TDA4863-2G; ComponentLink1Description: Manufacturer URL; ComponentLink1URL: http://www.infineon.com/; ComponentLink2Description: Datasheet; ComponentLink2URL: http://www.infineon.com/dgdl/tda4863-2_v2-1.pdf?folderId=db3a304412b407950112b418029a24aa&fileId=db3a304412b407950112b41802de24ab; ComponentLink3Description: Package Specification; ComponentLink3URL: http://www.infineon.com/cms/packages/SMD_-_Surface_Mounted_Devices/P-PG-DSO/P-PG-DSO-08-03x_-6x_-7x_-8x_-10x_-13x_-15x_-18x_-19x_-20x_-23.html?__locale=en
footprint INF-PG-DSO-8-3_N (SOP, 8-Leads, Body 4.9x3.9mm, Pitch 1.27mm, IPC Medium Density)
footprint INF-PG-DSO-8-3_L (SOP, 8-Leads, Body 4.9x3.9mm, Pitch 1.27mm, IPC High Density)
footprint INF-PG-DSO-8-3_M (SOP, 8-Leads, Body 4.9x3.9mm, Pitch 1.27mm, IPC Low Density)
pins: 1 VSENSE (in) "Voltage Amplifier Inverting Input; VSENSE is connected via a resistive divider to the boost converter output. With a capacitor connected to VAOUT it forms an integrator.", 2 VAOUT (out) "Voltage Amplifier Output; VAOUT is connected internally to the first multiplier input. To prevent overshoot the input voltage will be clamped at 5 V. During no load conditions output pulses are suppressed completely (See Datasheet)", 3 MULTIN (in) "Multiplier Input; MULTIN is the second multiplier input and connected via a resistive divider to the rectifier output voltage.", 4 ISENSE (in) "Current Sense Minus; ISENSE is connected to a sense resistor controlling the MOSFET source current. The input is internally clamped at - 0.3 V to prevent negative input voltage interaction. An internal low pass filter (See Datasheet)", 5 DETIN (in) "Zero Current Detector Input; DETIN is connected to an auxiliary winding monitoring the zero crossing of the inductor current.", 6 GND (power) "Ground; All voltages are measured with respect to GND. VCC should be bypassed directly to GND with a 0.1 uF or larger ceramic capacitor.", 7 GTDRV (out) "Gate Drive Output; GTDRV is the output of a totem-pole circuitry for direct driving a MOSFET. A clamping network bypasses low state source current and high state sink current.", 8 VCC (power) "Positive Supply Voltage; VCC should be connected to a stable source slightly above the VCC turn-ON threshold for normal operation. A 100 nF or lager ceramic capacitor connected to VCC absorbs supply current spikes required (See Datasheet)"

## TDA4863G
designator U?
Power-Factor Controller IC for High Power Factor and Low THD, 10 to 20 V, -40 to 150 degC, PG-DSO-8-3, Reel, Green; Part Number: TDA4863G; Manufacturer: Infineon; Frequency ( f ) Range: 30 - 300kHz; Green: TRUE; ICC (max): 20 mA; IQ (max): 500 mA; Iq (typ): 20 uA; Output: MOSFET Gate Driver; VCC (max): 20 V; VCC (min): 10 V; DatasheetVersion: Rev. 2; PackageReference: PG-DSO-8-3; PackageDescription: 8-Pin Plastic (Green) Dual Small Outline Package, 4.9 x 3.9 mm Body, 1.27 mm Pitch; Supplier 1: Mouser; Supplier Part Number 1: 726-TDA4863G; Supplier 2: Digi-Key; Supplier Part Number 2: TDA4863GTR-ND; Supplier 3: Digi-Key; Supplier Part Number 3: TDA4863GCT-ND; Supplier 4: Digi-Key; Supplier Part Number 4: TDA4863GDKR-ND; Halogen-free: available; Packing: Reel; Mounting Technology: Surface Mount; PartNumber: TDA4863G; ComponentLink1Description: Manufacturer URL; ComponentLink1URL: http://www.infineon.com/; ComponentLink2Description: Datasheet; ComponentLink2URL: http://www.infineon.com/dgdl/tda4863-Rev2G-password.pdf?folderId=db3a304412b407950112b427d2693ce7&fileId=db3a304412b407950112b427d2d23ce8; ComponentLink3Description: Package Specification; ComponentLink3URL: http://www.infineon.com/cms/packages/SMD_-_Surface_Mounted_Devices/P-PG-DSO/P-PG-DSO-08-03x_-6x_-7x_-8x_-10x_-13x_-15x_-18x_-19x_-20x_-23.html?__locale=en
footprint INF-PG-DSO-8-3_N (SOP, 8-Leads, Body 4.9x3.9mm, Pitch 1.27mm, IPC Medium Density)
footprint INF-PG-DSO-8-3_L (SOP, 8-Leads, Body 4.9x3.9mm, Pitch 1.27mm, IPC High Density)
footprint INF-PG-DSO-8-3_M (SOP, 8-Leads, Body 4.9x3.9mm, Pitch 1.27mm, IPC Low Density)
pins: 1 VSENSE (in) "Voltage Amplifier Inverting Input; VSENSE is connected via a resistive divider to the boost converter output. With a capacitor connected to VAOUT it forms an integrator.", 2 VAOUT (out) "Voltage Amplifier Output; VAOUT is connected internally to the first multiplier input. To prevent overshoot the input voltage will be clamped at 5 V. During no load conditions output pulses are suppressed completely (See Datasheet)", 3 MULTIN (in) "Multiplier Input; MULTIN is the second multiplier input and connected via a resistive divider to the rectifier output voltage.", 4 ISENSE (in) "Current Sense Minus; ISENSE is connected to a sense resistor controlling the MOSFET source current. The input is internally clamped at - 0.3 V to prevent negative input voltage interaction. An internal low pass filter (See Datasheet)", 5 DETIN (in) "Zero Current Detector Input; DETIN is connected to an auxiliary winding monitoring the zero crossing of the inductor current.", 6 GND (power) "Ground; All voltages are measured with respect to GND. VCC should be bypassed directly to GND with a 0.1 uF or larger ceramic capacitor.", 7 GTDRV (out) "Gate Drive Output; GTDRV is the output of a totem-pole circuitry for direct driving a MOSFET. A clamping network bypasses low state source current and high state sink current.", 8 VCC (power) "Positive Supply Voltage; VCC should be connected to a stable source slightly above the VCC turn-ON threshold for normal operation. A 100 nF or lager ceramic capacitor connected to VCC absorbs supply current spikes required (See Datasheet)"

## TLE4247EL40
designator U?
Constant Current Relay Driver, 3 to 30 V Supply, -40 to 150 degC, PG-DSO-8-27, Reel, Green; Manufacturer: Infineon; PartNumber: TLE4247EL40; Green: TRUE; Max. Output Current: 40 mA; Operating Range: 3 to 30 V; Regulator Type: coil/relay driver; Typical Quiescent Current: 1000 uA; DatasheetVersion: Rev. 1.01; PackageVersion: Jun-12; PackageReference: PG-DSO-8-27; PackageDescription: 8-Pin Plastic (Green) Dual Small Outline Package, 4.9 x 3.9 mm Body, 1.27 mm Pitch; Supplier 1: Mouser; Supplier Part Number 1: 726-TLE4247EL40; Supplier 2: Digi-Key; Supplier Part Number 2: TLE4247EL40-ND; Halogen-free: TRUE; Packing: Reel; Mounting Technology: Surface Mount; Code_JEDEC: MS-012; ComponentLink1Description: Manufacturer URL; ComponentLink1URL: http://www.infineon.com/; ComponentLink2Description: Datasheet; ComponentLink2URL: http://www.infineon.com/dgdl/TLE4247-Data-Sheet-101.pdf?folderId=db3a30431ff988150120802bce1d257a&fileId=db3a30432e25b009012e2e75190c702a&location=en.Products.Automotive_ICs.Linear_Voltage_Regulators_for_Automotive-Applications.Linear_Voltage_Regulators_-_Selection_Table.DATASHEET.TLE4247-Data-Sheet-101.pdf; ComponentLink3Description: Package Specification; ComponentLink3URL: http://www.infineon.com/dgdl/ILD4071_DS_V10_November2011.pdf?folderId=db3a30431f848401011fcbf2ab4c04c4&fileId=db3a30433784a04001380498fdf04c32
footprint INF-PG-DSO-8-27_N (SOP, 8-Leads, Body 4.9x3.9mm, Pitch 1.27mm, Thermal Pad 3.2x2.85mm, IPC Medium Density)
footprint INF-PG-DSO-8-27_L (SOP, 8-Leads, Body 4.9x3.9mm, Pitch 1.27mm, Thermal Pad 3.2x2.85mm, IPC High Density)
footprint INF-PG-DSO-8-27_M (SOP, 8-Leads, Body 4.9x3.9mm, Pitch 1.27mm, Thermal Pad 3.2x2.85mm, IPC Low Density)
part A pins: 1 S (power) "IC Supply; connect to relay coil freewheeling resistor according to Figure 1", 4 D (in) "Delay; for generating the activation time length, connect a ceramic capacitor between pin D and CGND", 5 CGND (power) "Relay Coil Current Output and IC Ground;", 8 IN (power) "Relay Coil Current Input; connect to relay coil according to Figure 1.", 9 EP (power) "Exposed Pad; interconnect with CGND and heat sink area on PCB."
part B pins: 2 NC "Not Connected; connection to heat sink area and CGND recommended.", 3 NC "Not Connected; connection to heat sink area and CGND recommended.", 6 NC "Not Connected; connection to heat sink area and CGND recommended.", 7 NC "Not Connected; connection to heat sink area and CGND recommended."